# Altium footprint library MicroMelf - Z.PcbLib: 1 footprints
Each footprint in its own frame and in the unit in brackets; x right, y up, seen from the top. Pads: shape width x height; smd on the part's side, far side on the other; paste and mask are expansions set on the pad; w line width, h text height; cw(c..) or ccw(c..) is an arc to the next point about the centre after c.
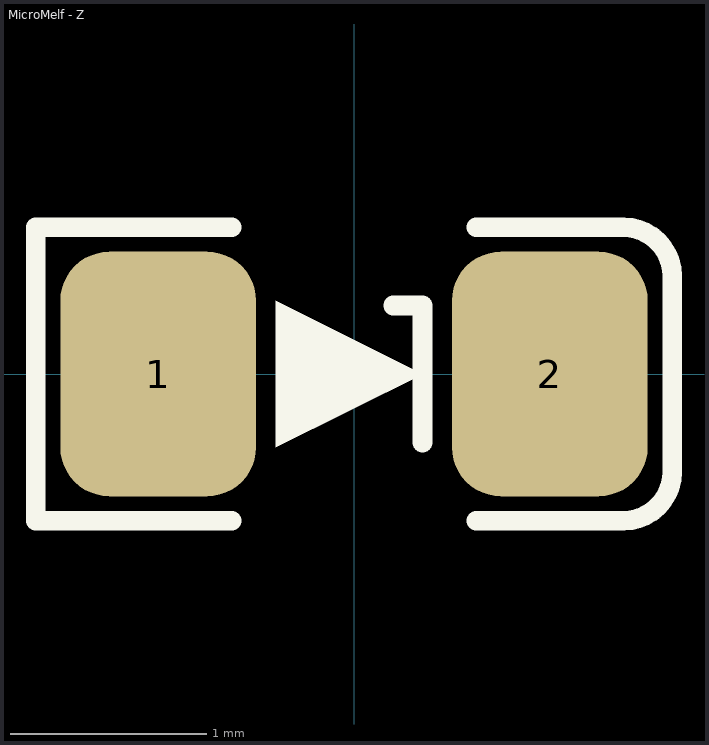
[diagram p0: the footprint, top view; thin cyan lines are the x and y axes]

## MicroMelf - Z [mm]
pads (2):
  rrect50% 1x1.25 smd: 1(-1,0) 2(1,0)
Top Overlay:
  region: -0.4,0.375 0.35,0 -0.4,-0.375
  lines w0.1: -0.625,-0.75 -1.625,-0.75 -1.625,0.75 -0.625,0.75 ; 0.2,0.35 0.35,0.35 0.35,-0.35 ; 0.625,-0.75 1.375,-0.75 ccw(c1.375,-0.5) 1.625,-0.5 1.625,0.5 ccw(c1.375,0.5) 1.375,0.75 0.625,0.75
3D body "Melf (1911).STEP": height 1.1, standoff 0, extent -0.95,-0.55 0.95,0.55